# Altium footprint library STM32 Core board.PcbLib: 42 footprints (part 3 of 3)
Each footprint in its own frame and in the unit in brackets; x right, y up, seen from the top. Pads: shape width x height; smd on the part's side, far side on the other; paste and mask are expansions set on the pad; w line width, h text height; cw(c..) or ccw(c..) is an arc to the next point about the centre after c.
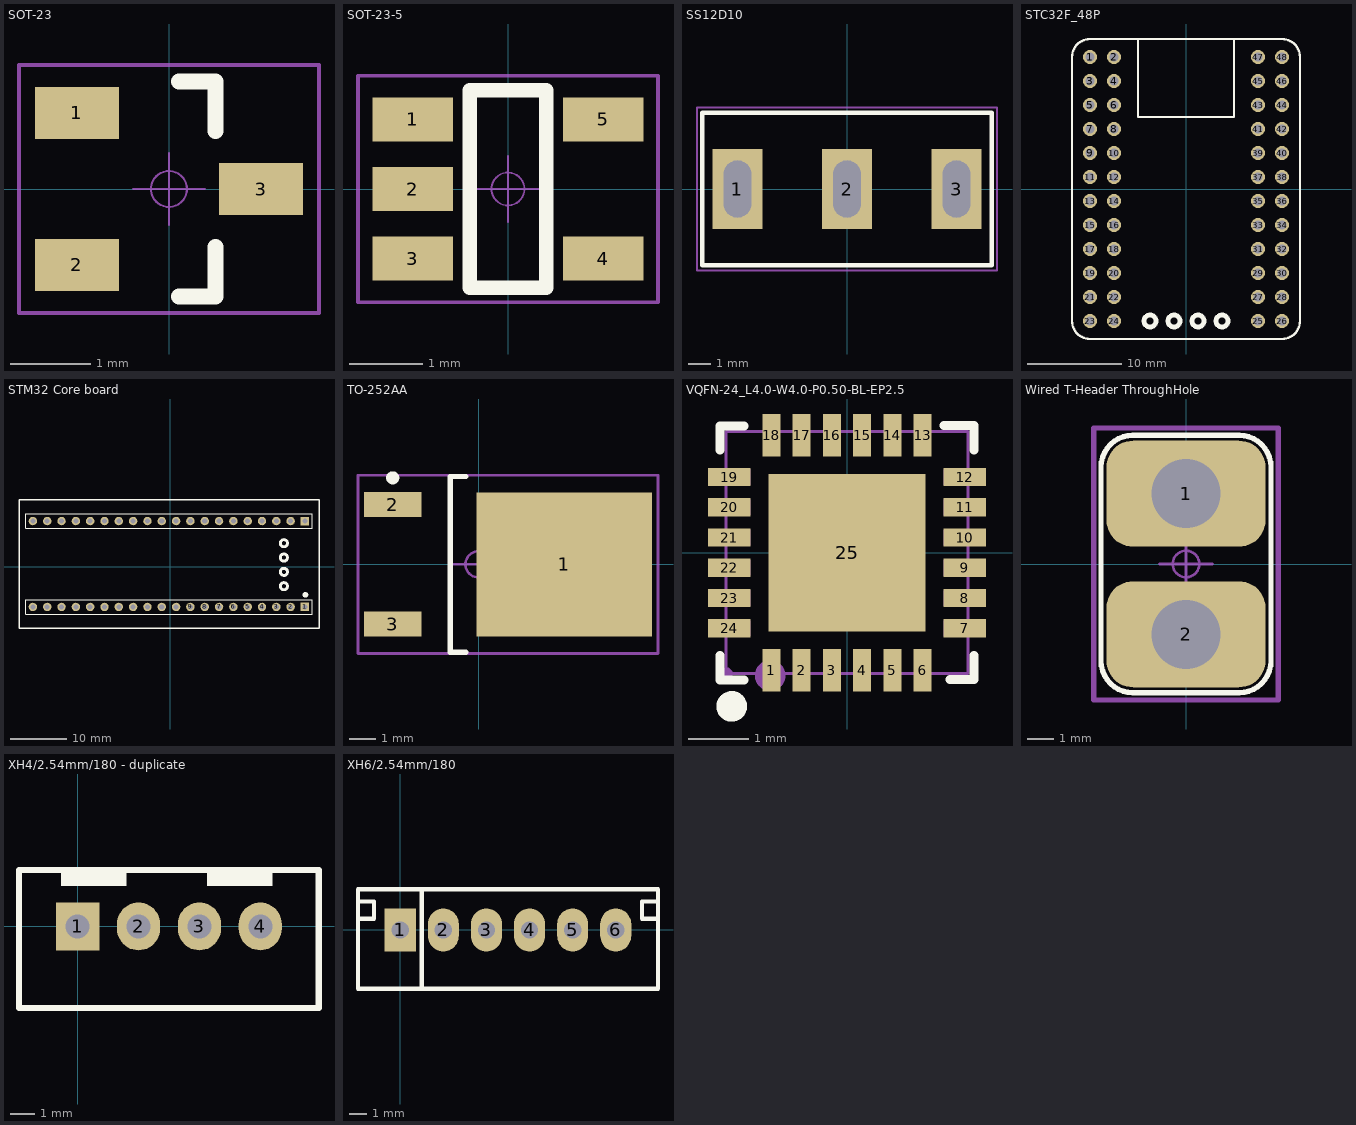
[diagram p2: the footprints below, top view; thin cyan lines are the x and y axes]

## SOT-23 [mm] "SOT23, 3-Leads, Body 2.90x2.40mm, Pitch 0.95mm, IPC Medium Density"
height 1.1
pads (3):
  rect 1.05x0.65 smd: 1(-1.15,0.95) 2(-1.15,-0.95) 3(1.15,0)
Top Overlay:
  lines w0.2: 0.127,-1.346 0.584,-1.346 0.584,-0.725 ; 0.127,1.346 0.584,1.346 0.584,0.725
Top Designator:
  text ".Designator" at -2.253,-0.226 h1
Top Component Outline:
  lines w0.05: -1.875,-1.55 -1.875,1.55 1.875,1.55 1.875,-1.55 -1.875,-1.55
Top Component Center:
  circle w0.025: c0,0 r0.225
  lines w0.025: -0.45,0 0.45,0 ; 0,-0.45 0,0.45
3D body "SOT-23-3P.STEP": height 1.2, standoff 0, extent -1.4,-1.45 1.4,1.45

## SOT-23-5 [mm] "SOT23, 5-Leads, Body 2.92x2.79mm, Pitch 0.95mm, IPC Medium Density"
height 1.42
pads (5):
  rect 1.1x0.6 smd: 1(-1.3,0.95) 2(-1.3,0) 3(-1.3,-0.95) 4(1.3,-0.95) 5(1.3,0.95)
Top Overlay:
  lines w0.2: -0.525,-1.35 -0.525,1.35 0.525,1.35 0.525,-1.35 -0.525,-1.35
Top Designator:
  text ".Designator" at -2.253,-0.226 h1
Top Component Outline:
  lines w0.05: -2.05,-1.55 -2.05,1.55 2.05,1.55 2.05,-1.55 -2.05,-1.55
Top Component Center:
  circle w0.025: c0,0 r0.225
  lines w0.025: -0.45,0 0.45,0 ; 0,-0.45 0,0.45
3D body "SOT-5.stp": height 1.08, standoff -0.01, extent -1.423,-1.461 1.422,1.46

## SS12D10 [mm] "拨动开关，直脚，脚距4.8"
height 0.6
pads (3):
  rect 2.2x3.5 hole 1.2 slot 2.5 at 90 deg mask+0.07: 1(-4.8,0) 2(0,0) 3(4.8,0)
Top Overlay:
  lines w0.2: -6.35,-3.35 6.35,-3.35 6.35,3.35 -6.35,3.35 -6.35,-3.3
Top Designator:
  text ".Designator" at -0.226,2.34 h1
Top Component Outline:
  lines w0.1: -6.575,-3.575 -6.575,3.575 6.575,3.575 6.575,-3.575 -6.575,-3.575
Top Component Center:
  circle w0.1: c0,0 r0.5
  lines w0.1: -1,0 1,0 ; 0,-1 0,1
3D body "ms-13aap1.stp": height 12.5, standoff -5.4, extent -6.4,-3.3 6.35,3.8

## STC32F_48P [mm] "核心板"
height 0.6
pads (48):
  round 1.5 hole 0.9: 1(-10.16,13.97) 2(-7.62,13.97) 3(-10.16,11.43) 4(-7.62,11.43) 5(-10.16,8.89) 6(-7.62,8.89) 7(-10.16,6.35) 8(-7.62,6.35) 9(-10.16,3.81) 10(-7.62,3.81) 11(-10.16,1.27) 12(-7.62,1.27) 13(-10.16,-1.27) 14(-7.62,-1.27) 15(-10.16,-3.81) 16(-7.62,-3.81) 17(-10.16,-6.35) 18(-7.62,-6.35) 19(-10.16,-8.89) 20(-7.62,-8.89) 21(-10.16,-11.43) 22(-7.62,-11.43) 23(-10.16,-13.97) 24(-7.62,-13.97) 25(7.62,-13.97) 26(10.16,-13.97) 27(7.62,-11.43) 28(10.16,-11.43) 29(7.62,-8.89) 30(10.16,-8.89) 31(7.62,-6.35) 32(10.16,-6.35) 33(7.62,-3.81) 34(10.16,-3.81) 35(7.62,-1.27) 36(10.16,-1.27) 37(7.62,1.27) 38(10.16,1.27) 39(7.62,3.81) 40(10.16,3.81) 41(7.62,6.35) 42(10.16,6.35) 43(7.62,8.89) 44(10.16,8.89) 45(7.62,11.43) 46(10.16,11.43) 47(7.62,13.97) 48(10.16,13.97)
Top Overlay:
  circle w0.508: c3.81,-13.97 r0.635
  circle w0.508: c1.27,-13.97 r0.635
  circle w0.508: c-1.27,-13.97 r0.635
  circle w0.508: c-3.81,-13.97 r0.635
  lines w0.254: -5.08,15.875 -5.08,7.62 5.08,7.62 5.08,15.875 ; -12.065,-13.97 ccw(c-10.16,-13.97) -10.16,-15.875 10.16,-15.875 ccw(c10.16,-13.97) 12.065,-13.97 12.065,13.97 ccw(c10.16,13.97) 10.16,15.875 -10.16,15.875 ccw(c-10.16,13.97) -12.065,13.97 -12.065,-13.97

## STM32 Core board [mm]
pads (40):
  rect 1.5x1.5 hole 0.9: 1(23.927,-7.112) 21(23.927,8.128)
  round 1.5 hole 0.9: 2(21.387,-7.112) 3(18.847,-7.112) 4(16.307,-7.112) 5(13.767,-7.112) 6(11.227,-7.112) 7(8.687,-7.112) 8(6.147,-7.112) 9(3.607,-7.112) 10(1.067,-7.112) 11(-1.473,-7.112) 12(-4.013,-7.112) 13(-6.553,-7.112) 14(-9.093,-7.112) 15(-11.633,-7.112) 16(-14.173,-7.112) 17(-16.713,-7.112) 18(-19.253,-7.112) 19(-21.793,-7.112) 20(-24.333,-7.112) 22(21.387,8.128) 23(18.847,8.128) 24(16.307,8.128) 25(13.767,8.128) 26(11.227,8.128) 27(8.687,8.128) 28(6.147,8.128) 29(3.607,8.128) 30(1.067,8.128) 31(-1.473,8.128) 32(-4.013,8.128) 33(-6.553,8.128) 34(-9.093,8.128) 35(-11.633,8.128) 36(-14.173,8.128) 37(-16.713,8.128) 38(-19.253,8.128) 39(-21.793,8.128) 40(-24.333,8.128)
Top Overlay:
  circle w0.508: c20.193,1.651 r0.635
  circle w0.508: c20.193,-0.889 r0.635
  circle w0.508: c20.193,-3.429 r0.635
  circle w0.508: c20.193,4.191 r0.635
  circle w0.508: c24.003,-4.953 r0.254
  lines w0.2: -25.603,-8.382 -25.603,-5.842 25.197,-5.842 25.197,-8.382 23.292,-8.382 -25.603,-8.382 ; -25.603,6.858 -25.603,9.398 25.197,9.398 25.197,6.858 23.292,6.858 -25.603,6.858
  lines w0.254: -26.797,-10.922 -26.797,11.938 26.416,11.938 26.416,-10.922 -26.797,-10.922

## TO-252AA [mm] "D-PAK, 4-Leads, Body 6.1x6.5mm, Pitch 2.28mm, Lead Span 9.8mm, IPC Low Density"
height 2.38
pads (3):
  rect 6.7x5.5 smd: 1(3.275,0)
  rect 2.2x0.95 smd: 2(-3.275,2.28) 3(-3.275,-2.28)
Top Overlay:
  circle w0.25: c-3.275,3.305 r0.125
  lines w0.2: -0.475,-3.35 -1.075,-3.35 -1.075,3.35 -0.475,3.35
Top Designator:
  text ".Designator" at -1.128,-0.173 h1
Top Component Outline:
  lines w0.1: -4.6,-3.4 6.85,-3.4 6.85,3.4 -4.6,3.4 -4.6,-3.4
Top Component Center:
  circle w0.1: c0,0 r0.5
  lines w0.1: -1,0 1,0 ; 0,-1 0,1
3D body "User Library-DPAK-1.STEP": height 2.39, standoff -0.02, extent -3.775,-3.27 6.163,3.27

## VQFN-24_L4.0-W4.0-P0.50-BL-EP2.5 [mm]
pads (25):
  rect 0.3x0.7 smd paste-100 mask+0.051: 1(-1.25,-1.942) 2(-0.75,-1.942) 3(-0.25,-1.942) 4(0.25,-1.942) 5(0.75,-1.942) 6(1.25,-1.942) 13(1.25,1.942) 14(0.75,1.942) 15(0.25,1.942) 16(-0.25,1.942) 17(-0.75,1.942) 18(-1.25,1.942)
  rect 0.7x0.3 smd paste-100 mask+0.051: 7(1.948,-1.25) 8(1.948,-0.75) 9(1.948,-0.25) 10(1.948,0.25) 11(1.948,0.75) 12(1.948,1.25) 19(-1.948,1.25) 20(-1.948,0.75) 21(-1.948,0.25) 22(-1.948,-0.25) 23(-1.948,-0.75) 24(-1.948,-1.25)
  rect 2.6x2.6 smd paste-100 mask+0.051: 25(0.001,-0.001)
Top Overlay:
  circle w0.254: c-1.905,-2.54 r0.127
  lines w0.15: -2.1,-1.7 -2.1,-2.104 -1.7,-2.104 ; -2.1,1.696 -2.1,2.096 -1.7,2.096 ; 1.6,2.1 2.1,2.1 2.1,1.7 ; 1.7,-2.1 2.1,-2.1 2.1,-1.7
Top Paste:
  region: -1.039,-1.041 -1.039,1.039 1.041,1.039 1.041,-1.041
  region: -2.298,-1.4 -2.298,-1.1 -1.598,-1.1 -1.598,-1.4
  region: -2.298,-0.9 -2.298,-0.6 -1.598,-0.6 -1.598,-0.9
  region: -2.298,-0.4 -2.298,-0.1 -1.598,-0.1 -1.598,-0.4
  region: -2.298,0.1 -2.298,0.4 -1.598,0.4 -1.598,0.1
  region: -2.298,0.6 -2.298,0.9 -1.598,0.9 -1.598,0.6
  region: -2.298,1.1 -2.298,1.4 -1.598,1.4 -1.598,1.1
  region: -1.4,2.292 -1.1,2.292 -1.1,1.592 -1.4,1.592
  region: -0.9,2.292 -0.6,2.292 -0.6,1.592 -0.9,1.592
  region: -0.4,2.292 -0.1,2.292 -0.1,1.592 -0.4,1.592
  region: 0.1,2.292 0.4,2.292 0.4,1.592 0.1,1.592
  region: 0.6,2.292 0.9,2.292 0.9,1.592 0.6,1.592
  region: 1.1,2.292 1.4,2.292 1.4,1.592 1.1,1.592
  region: 2.298,1.4 2.298,1.1 1.598,1.1 1.598,1.4
  region: 2.298,0.9 2.298,0.6 1.598,0.6 1.598,0.9
  region: 2.298,0.4 2.298,0.1 1.598,0.1 1.598,0.4
  region: 2.298,-0.1 2.298,-0.4 1.598,-0.4 1.598,-0.1
  region: 2.298,-0.6 2.298,-0.9 1.598,-0.9 1.598,-0.6
  region: 2.298,-1.1 2.298,-1.4 1.598,-1.4 1.598,-1.1
  region: 1.4,-2.292 1.1,-2.292 1.1,-1.592 1.4,-1.592
  region: 0.9,-2.292 0.6,-2.292 0.6,-1.592 0.9,-1.592
  region: 0.4,-2.292 0.1,-2.292 0.1,-1.592 0.4,-1.592
  region: -0.1,-2.292 -0.4,-2.292 -0.4,-1.592 -0.1,-1.592
  region: -0.6,-2.292 -0.9,-2.292 -0.9,-1.592 -0.6,-1.592
  region: -1.1,-2.292 -1.4,-2.292 -1.4,-1.592 -1.1,-1.592
Mechanical 6:
  circle w0.254: c-1.27,-2.032 r0.127
Mechanical 15:
  region: -1.9,-2 -1.9,-1.959 -1.959,-1.9 -2.041,-1.9 -2.1,-1.959 -2.1,-2 -2.1,-2.042 -2.041,-2.1 -1.959,-2.1 -1.9,-2.042
  region: -1.249,1.249 1.251,1.249 1.251,-1.251 -1.249,-1.251
  region: -1.375,-2 -1.375,-1.6 -1.125,-1.6 -1.125,-2
  region: -0.875,-2 -0.875,-1.6 -0.625,-1.6 -0.625,-2
  region: -0.375,-2 -0.375,-1.6 -0.125,-1.6 -0.125,-2
  region: 0.125,-2 0.125,-1.6 0.375,-1.6 0.375,-2
  region: 0.625,-2 0.625,-1.6 0.875,-1.6 0.875,-2
  region: 1.125,-2 1.125,-1.6 1.375,-1.6 1.375,-2
  region: 1.376,1.998 1.376,1.598 1.126,1.598 1.126,1.998
  region: 0.877,1.998 0.877,1.598 0.627,1.598 0.627,1.998
  region: 0.376,1.998 0.376,1.598 0.126,1.598 0.126,1.998
  region: -0.123,1.998 -0.123,1.598 -0.373,1.598 -0.373,1.998
  region: -0.624,1.998 -0.624,1.598 -0.874,1.598 -0.874,1.998
  region: -1.123,1.998 -1.123,1.598 -1.373,1.598 -1.373,1.998
  region: 2,-1.378 1.6,-1.378 1.6,-1.128 2,-1.128
  region: 2,-0.878 1.6,-0.878 1.6,-0.628 2,-0.628
  region: 2,-0.378 1.6,-0.378 1.6,-0.128 2,-0.128
  region: 2,0.122 1.6,0.122 1.6,0.372 2,0.372
  region: 2,0.622 1.6,0.622 1.6,0.872 2,0.872
  region: 2,1.122 1.6,1.122 1.6,1.372 2,1.372
  region: -1.997,1.375 -1.597,1.375 -1.597,1.125 -1.997,1.125
  region: -1.997,0.875 -1.597,0.875 -1.597,0.625 -1.997,0.625
  region: -1.997,0.375 -1.597,0.375 -1.597,0.125 -1.997,0.125
  region: -1.997,-0.125 -1.597,-0.125 -1.597,-0.375 -1.997,-0.375
  region: -1.997,-0.625 -1.597,-0.625 -1.597,-0.875 -1.997,-0.875
  region: -1.997,-1.125 -1.597,-1.125 -1.597,-1.375 -1.997,-1.375
  lines w0.051: -2,-2 2,-2 2,2 -2,2 -2,-2

## Wired T-Header ThroughHole [mm] "带线T头直插焊盘"
height 0.6
pads (2):
  rrect50% 6x4 hole 2.6: 1(0,2.65) 2(0,-2.65)
Top Overlay:
  lines w0.203: -3.2,-3.65 ccw(c-2,-3.65) -2,-4.85 2,-4.85 ccw(c2,-3.65) 3.2,-3.65 3.2,3.65 ccw(c2,3.65) 2,4.85 -2,4.85 ccw(c-2,3.65) -3.2,3.65 -3.2,-3.65
Top Designator:
  text ".Designator" at -2.253,-0.226 h1
Top Component Outline:
  lines w0.2: -3.475,-5.125 3.475,-5.125 3.475,5.125 -3.475,5.125 -3.475,-5.125
Top Component Center:
  circle w0.1: c0,0 r0.5
  lines w0.1: -1,0 1,0 ; 0,-1 0,1

## XH4/2.54mm/180 - duplicate [mm]
pads (4):
  rect 1.8x2 hole 1: 1(0,0)
  oval 1.8x2 hole 1: 2(2.54,0) 3(5.08,0) 4(7.62,0)
Top Overlay:
  rectangle: -0.704,1.692 2.032,2.342
  rectangle: 5.392,1.692 8.128,2.342
  lines w0.24: -2.45,0 -2.45,2.35
  lines w0.254: -2.45,0 -2.45,-3.4 ; 10.058,-3.4 10.058,2.325 ; -2.45,-3.4 -2.45,2.35 ; -2.45,-3.4 10.07,-3.4 ; -2.45,2.35 10.07,2.35 ; -2.45,2.35 -2.45,2.35 ; 10.07,-3.4 10.07,0 10.07,2.35 ; 10.07,-3.4 10.07,2.35
3D body "User Library-B4B-XH-A.STEP": height 7, standoff -3.4, extent -2.39,-3.302 10.01,2.448

## XH6/2.54mm/180 [mm]
pads (6):
  rect 1.8x2.5 hole 1: 1(0,0)
  oval 1.8x2.5 hole 1: 2(2.5,0) 3(5,0) 4(7.5,0) 5(10,0) 6(12.5,0)
Top Overlay:
  lines w0.254: -2.45,0.65 -1.524,0.65 -1.524,1.65 -2.45,1.65 ; 1.25,-3.4 1.25,2.35 ; 14.95,0.65 14.024,0.65 14.024,1.65 14.95,1.65 ; -2.45,-3.4 -2.45,2.35 14.95,2.35 14.95,-3.4 -2.45,-3.4
3D body "JST-B6B-XH-A.STEP": height 7, standoff -3.4, extent -2.45,-3.4 14.95,2.35